# EAGLE library part DB9M (library lantronix-wallplug)
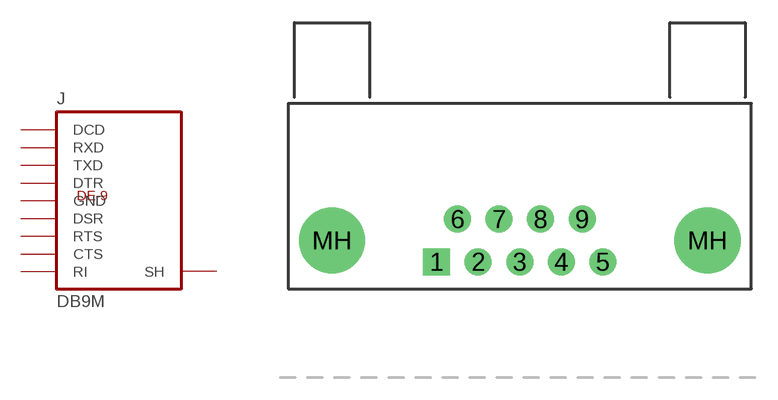
[diagram p3: symbol with the pads of DB9MRA; footprint DB9MRA]

Designator prefix J

## DB9M  [DB9MRA]
1  DCD  in
2  RXD  in
3  TXD  out
4  DTR  out
5  GND  pwr
6  DSR  in
7  RTS  out
8  CTS  in
9  RI  in
MH  SH  pas

## Footprint DB9MRA (pad centres in mm)
DE-9 (DB9) male, right angle, housed; board edge 7.70 mm from pin row 1
drill 1 pad 1.8 square: 1 0,0
drill 1 pad 1.8: 2 2.77,0; 3 5.54,0; 4 8.31,0; 5 11.08,0; 6 1.385,2.84; 7 4.155,2.84; 8 6.925,2.84; 9 9.695,2.84
drill 3.2 pad 4.4: MH -6.96,1.42; MH 18.04,1.42